# Altium footprint library SOP400P650X145-4N.PcbLib: 1 footprints
Each footprint in its own frame and in the unit in brackets; x right, y up, seen from the top. Pads: shape width x height; smd on the part's side, far side on the other; paste and mask are expansions set on the pad; w line width, h text height; cw(c..) or ccw(c..) is an arc to the next point about the centre after c.
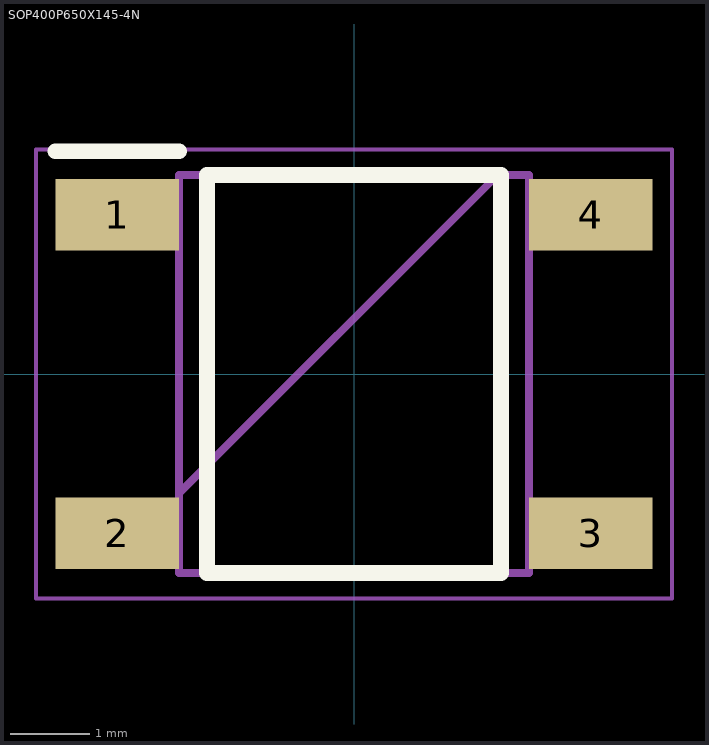
[diagram p0: the footprint, top view; thin cyan lines are the x and y axes]

## SOP400P650X145-4N [mm]
pads (4):
  rect 1.55x0.9 smd: 1(-2.975,2) 2(-2.975,-2) 3(2.975,-2) 4(2.975,2)
Top Overlay:
  lines w0.2: -3.75,2.8 -2.2,2.8 ; -1.85,-2.5 1.85,-2.5 1.85,2.5 -1.85,2.5 -1.85,-2.5
Mechanical 15:
  lines w0.1: -2.2,-1.5 1.8,2.5 ; -2.2,-2.5 2.2,-2.5 2.2,2.5 -2.2,2.5 -2.2,-2.5
Mechanical 20:
  lines w0.05: -4,-2.825 4,-2.825 4,2.825 -4,2.825 -4,-2.825